# Altium schematic symbol library xgzpLib.SchLib: 1 symbol
Pins are listed as number, name and electrical type; pins without a type are passive.

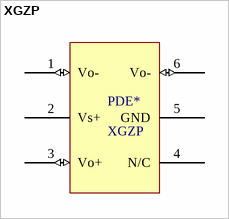
[diagram p0: symbol XGZP]

## XGZP
designator PDE*
footprint XGZP_Footprint
pins: 1 Vo- (io), 2 Vs+ (power), 3 Vo+ (io), 4 N/C, 5 GND (power), 6 Vo- (io)